# EAGLE library part XC3S100E-VQ100 (library xess)
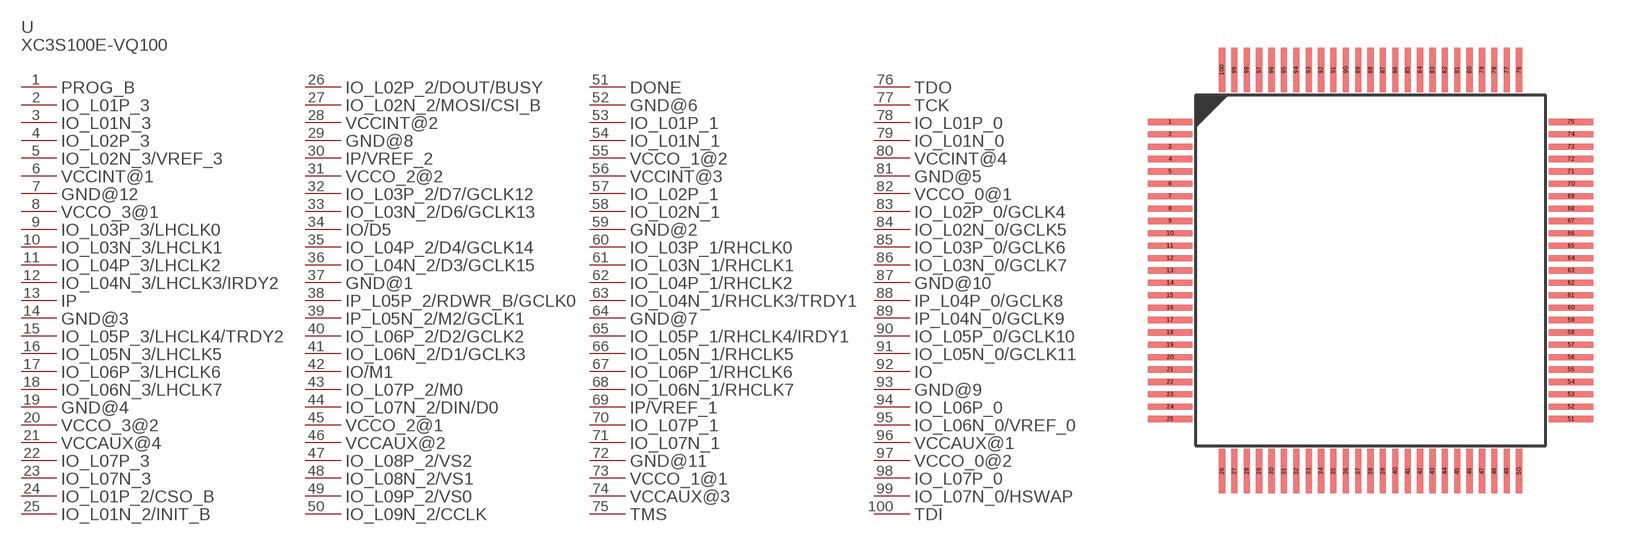
[diagram p84: symbol with the pads of XC3S100E-VQ100; footprint XC3S100E-VQ100]

Designator prefix U; gates PART_VALUE=PART_VALUE-XC3S100E-VQ100 PROG_B=PL-XC3S100E-VQ100 IO_L01P_3=PL-XC3S100E-VQ100 IO_L01N_3=PL-XC3S100E-VQ100 IO_L02P_3=PL-XC3S100E-VQ100 IO_L02N_3/VREF_3=PL-XC3S100E-VQ100 VCCINT@1=PL-XC3S100E-VQ100 GND@12=PL-XC3S100E-VQ100 VCCO_3@1=PL-XC3S100E-VQ100 IO_L03P_3/LHCLK0=PL-XC3S100E-VQ100 IO_L03N_3/LHCLK1=PL-XC3S100E-VQ100 IO_L04P_3/LHCLK2=PL-XC3S100E-VQ100 IO_L04N_3/LHCLK3/IRDY2=PL-XC3S100E-VQ100 IP=PL-XC3S100E-VQ100 GND@3=PL-XC3S100E-VQ100 IO_L05P_3/LHCLK4/TRDY2=PL-XC3S100E-VQ100 IO_L05N_3/LHCLK5=PL-XC3S100E-VQ100 IO_L06P_3/LHCLK6=PL-XC3S100E-VQ100 IO_L06N_3/LHCLK7=PL-XC3S100E-VQ100 GND@4=PL-XC3S100E-VQ100 VCCO_3@2=PL-XC3S100E-VQ100 VCCAUX@4=PL-XC3S100E-VQ100 IO_L07P_3=PL-XC3S100E-VQ100 IO_L07N_3=PL-XC3S100E-VQ100 IO_L01P_2/CSO_B=PL-XC3S100E-VQ100 IO_L01N_2/INIT_B=PL-XC3S100E-VQ100 IO_L02P_2/DOUT/BUSY=PL-XC3S100E-VQ100 IO_L02N_2/MOSI/CSI_B=PL-XC3S100E-VQ100 VCCINT@2=PL-XC3S100E-VQ100 GND@8=PL-XC3S100E-VQ100 IP/VREF_2=PL-XC3S100E-VQ100 VCCO_2@2=PL-XC3S100E-VQ100 IO_L03P_2/D7/GCLK12=PL-XC3S100E-VQ100 IO_L03N_2/D6/GCLK13=PL-XC3S100E-VQ100 IO/D5=PL-XC3S100E-VQ100 IO_L04P_2/D4/GCLK14=PL-XC3S100E-VQ100 IO_L04N_2/D3/GCLK15=PL-XC3S100E-VQ100 GND@1=PL-XC3S100E-VQ100 IP_L05P_2/RDWR_B/GCLK0=PL-XC3S100E-VQ100 IP_L05N_2/M2/GCLK1=PL-XC3S100E-VQ100 IO_L06P_2/D2/GCLK2=PL-XC3S100E-VQ100 IO_L06N_2/D1/GCLK3=PL-XC3S100E-VQ100 IO/M1=PL-XC3S100E-VQ100 IO_L07P_2/M0=PL-XC3S100E-VQ100 IO_L07N_2/DIN/D0=PL-XC3S100E-VQ100 VCCO_2@1=PL-XC3S100E-VQ100 VCCAUX@2=PL-XC3S100E-VQ100 IO_L08P_2/VS2=PL-XC3S100E-VQ100 IO_L08N_2/VS1=PL-XC3S100E-VQ100 IO_L09P_2/VS0=PL-XC3S100E-VQ100 IO_L09N_2/CCLK=PL-XC3S100E-VQ100 DONE=PL-XC3S100E-VQ100 GND@6=PL-XC3S100E-VQ100 IO_L01P_1=PL-XC3S100E-VQ100 IO_L01N_1=PL-XC3S100E-VQ100 VCCO_1@2=PL-XC3S100E-VQ100 VCCINT@3=PL-XC3S100E-VQ100 IO_L02P_1=PL-XC3S100E-VQ100 IO_L02N_1=PL-XC3S100E-VQ100 GND@2=PL-XC3S100E-VQ100 IO_L03P_1/RHCLK0=PL-XC3S100E-VQ100 IO_L03N_1/RHCLK1=PL-XC3S100E-VQ100 IO_L04P_1/RHCLK2=PL-XC3S100E-VQ100 IO_L04N_1/RHCLK3/TRDY1=PL-XC3S100E-VQ100 GND@7=PL-XC3S100E-VQ100 IO_L05P_1/RHCLK4/IRDY1=PL-XC3S100E-VQ100 IO_L05N_1/RHCLK5=PL-XC3S100E-VQ100 IO_L06P_1/RHCLK6=PL-XC3S100E-VQ100 IO_L06N_1/RHCLK7=PL-XC3S100E-VQ100 IP/VREF_1=PL-XC3S100E-VQ100 IO_L07P_1=PL-XC3S100E-VQ100 IO_L07N_1=PL-XC3S100E-VQ100 GND@11=PL-XC3S100E-VQ100 VCCO_1@1=PL-XC3S100E-VQ100 VCCAUX@3=PL-XC3S100E-VQ100 TMS=PL-XC3S100E-VQ100 TDO=PL-XC3S100E-VQ100 TCK=PL-XC3S100E-VQ100 IO_L01P_0=PL-XC3S100E-VQ100 IO_L01N_0=PL-XC3S100E-VQ100 VCCINT@4=PL-XC3S100E-VQ100 GND@5=PL-XC3S100E-VQ100 VCCO_0@1=PL-XC3S100E-VQ100 IO_L02P_0/GCLK4=PL-XC3S100E-VQ100 IO_L02N_0/GCLK5=PL-XC3S100E-VQ100 IO_L03P_0/GCLK6=PL-XC3S100E-VQ100 IO_L03N_0/GCLK7=PL-XC3S100E-VQ100 GND@10=PL-XC3S100E-VQ100 IP_L04P_0/GCLK8=PL-XC3S100E-VQ100 IP_L04N_0/GCLK9=PL-XC3S100E-VQ100 IO_L05P_0/GCLK10=PL-XC3S100E-VQ100 IO_L05N_0/GCLK11=PL-XC3S100E-VQ100 IO=PL-XC3S100E-VQ100 GND@9=PL-XC3S100E-VQ100 IO_L06P_0=PL-XC3S100E-VQ100 IO_L06N_0/VREF_0=PL-XC3S100E-VQ100 VCCAUX@1=PL-XC3S100E-VQ100 VCCO_0@2=PL-XC3S100E-VQ100 IO_L07P_0=PL-XC3S100E-VQ100 IO_L07N_0/HSWAP=PL-XC3S100E-VQ100 TDI=PL-XC3S100E-VQ100

## XC3S100E-VQ100  [XC3S100E-VQ100]
1  PROG_B:P$1
2  IO_L01P_3:P$1
3  IO_L01N_3:P$1
4  IO_L02P_3:P$1
5  IO_L02N_3/VREF_3:P$1
6  VCCINT@1:P$1
7  GND@12:P$1
8  VCCO_3@1:P$1
9  IO_L03P_3/LHCLK0:P$1
10  IO_L03N_3/LHCLK1:P$1
11  IO_L04P_3/LHCLK2:P$1
12  IO_L04N_3/LHCLK3/IRDY2:P$1
13  IP:P$1
14  GND@3:P$1
15  IO_L05P_3/LHCLK4/TRDY2:P$1
16  IO_L05N_3/LHCLK5:P$1
17  IO_L06P_3/LHCLK6:P$1
18  IO_L06N_3/LHCLK7:P$1
19  GND@4:P$1
20  VCCO_3@2:P$1
21  VCCAUX@4:P$1
22  IO_L07P_3:P$1
23  IO_L07N_3:P$1
24  IO_L01P_2/CSO_B:P$1
25  IO_L01N_2/INIT_B:P$1
26  IO_L02P_2/DOUT/BUSY:P$1
27  IO_L02N_2/MOSI/CSI_B:P$1
28  VCCINT@2:P$1
29  GND@8:P$1
30  IP/VREF_2:P$1
31  VCCO_2@2:P$1
32  IO_L03P_2/D7/GCLK12:P$1
33  IO_L03N_2/D6/GCLK13:P$1
34  IO/D5:P$1
35  IO_L04P_2/D4/GCLK14:P$1
36  IO_L04N_2/D3/GCLK15:P$1
37  GND@1:P$1
38  IP_L05P_2/RDWR_B/GCLK0:P$1
39  IP_L05N_2/M2/GCLK1:P$1
40  IO_L06P_2/D2/GCLK2:P$1
41  IO_L06N_2/D1/GCLK3:P$1
42  IO/M1:P$1
43  IO_L07P_2/M0:P$1
44  IO_L07N_2/DIN/D0:P$1
45  VCCO_2@1:P$1
46  VCCAUX@2:P$1
47  IO_L08P_2/VS2:P$1
48  IO_L08N_2/VS1:P$1
49  IO_L09P_2/VS0:P$1
50  IO_L09N_2/CCLK:P$1
51  DONE:P$1
52  GND@6:P$1
53  IO_L01P_1:P$1
54  IO_L01N_1:P$1
55  VCCO_1@2:P$1
56  VCCINT@3:P$1
57  IO_L02P_1:P$1
58  IO_L02N_1:P$1
59  GND@2:P$1
60  IO_L03P_1/RHCLK0:P$1
61  IO_L03N_1/RHCLK1:P$1
62  IO_L04P_1/RHCLK2:P$1
63  IO_L04N_1/RHCLK3/TRDY1:P$1
64  GND@7:P$1
65  IO_L05P_1/RHCLK4/IRDY1:P$1
66  IO_L05N_1/RHCLK5:P$1
67  IO_L06P_1/RHCLK6:P$1
68  IO_L06N_1/RHCLK7:P$1
69  IP/VREF_1:P$1
70  IO_L07P_1:P$1
71  IO_L07N_1:P$1
72  GND@11:P$1
73  VCCO_1@1:P$1
74  VCCAUX@3:P$1
75  TMS:P$1
76  TDO:P$1
77  TCK:P$1
78  IO_L01P_0:P$1
79  IO_L01N_0:P$1
80  VCCINT@4:P$1
81  GND@5:P$1
82  VCCO_0@1:P$1
83  IO_L02P_0/GCLK4:P$1
84  IO_L02N_0/GCLK5:P$1
85  IO_L03P_0/GCLK6:P$1
86  IO_L03N_0/GCLK7:P$1
87  GND@10:P$1
88  IP_L04P_0/GCLK8:P$1
89  IP_L04N_0/GCLK9:P$1
90  IO_L05P_0/GCLK10:P$1
91  IO_L05N_0/GCLK11:P$1
92  IO:P$1
93  GND@9:P$1
94  IO_L06P_0:P$1
95  IO_L06N_0/VREF_0:P$1
96  VCCAUX@1:P$1
97  VCCO_0@2:P$1
98  IO_L07P_0:P$1
99  IO_L07N_0/HSWAP:P$1
100  TDI:P$1

## Footprint XC3S100E-VQ100 (pad centres in mm)
smd 1.8 x 0.25: 1 -0.4,0; 2 -0.4,-0.5; 3 -0.4,-1; 4 -0.4,-1.5; 5 -0.4,-2; 6 -0.4,-2.5; 7 -0.4,-3; 8 -0.4,-3.5; 9 -0.4,-4; 10 -0.4,-4.5; 11 -0.4,-5; 12 -0.4,-5.5; 13 -0.4,-6; 14 -0.4,-6.5; 15 -0.4,-7; 16 -0.4,-7.5; 17 -0.4,-8; 18 -0.4,-8.5; 19 -0.4,-9; 20 -0.4,-9.5; 21 -0.4,-10; 22 -0.4,-10.5; 23 -0.4,-11; 24 -0.4,-11.5; 25 -0.4,-12; 51 15.8,-12; 52 15.8,-11.5; 53 15.8,-11; 54 15.8,-10.5; 55 15.8,-10; 56 15.8,-9.5; 57 15.8,-9; 58 15.8,-8.5; 59 15.8,-8; 60 15.8,-7.5; 61 15.8,-7; 62 15.8,-6.5; 63 15.8,-6; 64 15.8,-5.5; 65 15.8,-5; 66 15.8,-4.5; 67 15.8,-4; 68 15.8,-3.5; 69 15.8,-3; 70 15.8,-2.5; 71 15.8,-2; 72 15.8,-1.5; 73 15.8,-1; 74 15.8,-0.5; 75 15.8,0
smd 0.25 x 1.8: 26 1.7,-14.1; 27 2.2,-14.1; 28 2.7,-14.1; 29 3.2,-14.1; 30 3.7,-14.1; 31 4.2,-14.1; 32 4.7,-14.1; 33 5.2,-14.1; 34 5.7,-14.1; 35 6.2,-14.1; 36 6.7,-14.1; 37 7.2,-14.1; 38 7.7,-14.1; 39 8.2,-14.1; 40 8.7,-14.1; 41 9.2,-14.1; 42 9.7,-14.1; 43 10.2,-14.1; 44 10.7,-14.1; 45 11.2,-14.1; 46 11.7,-14.1; 47 12.2,-14.1; 48 12.7,-14.1; 49 13.2,-14.1; 50 13.7,-14.1; 76 13.7,2.1; 77 13.2,2.1; 78 12.7,2.1; 79 12.2,2.1; 80 11.7,2.1; 81 11.2,2.1; 82 10.7,2.1; 83 10.2,2.1; 84 9.7,2.1; 85 9.2,2.1; 86 8.7,2.1; 87 8.2,2.1; 88 7.7,2.1; 89 7.2,2.1; 90 6.7,2.1; 91 6.2,2.1; 92 5.7,2.1; 93 5.2,2.1; 94 4.7,2.1; 95 4.2,2.1; 96 3.7,2.1; 97 3.2,2.1; 98 2.7,2.1; 99 2.2,2.1; 100 1.7,2.1